# Altium integrated library 317030001.IntLib: 1 symbol
Pins are listed as number, name and electrical type; pins without a type are passive.

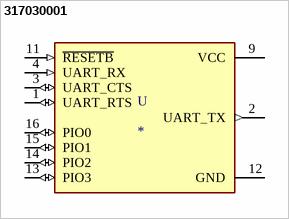
[diagram p0: symbol 317030001]

## 317030001
designator U
Bluetooth Bluetooth v4.0 Transceiver Module 2.4GHz Integrated, Trace Surface Mount; MF: Seeed Technology; MP: 317030001; Value: *; SnapEDA_Link: https://www.snapeda.com/parts/317030001/Seeed%20Technology%20Co.%2C%20Ltd/view-part/449174/?ref=snap; Digi-Key_Purchase_URL: https://www.digikey.kr/product-detail/en/seeed-technology-co-ltd/317030001/1597-1359-ND/5487659?utm_source=snapeda&utm_medium=aggregator&utm_campaign=symbol; Digi-Key_Part_Number: 1597-1359-ND; Package: Module Seeed Technology
footprint XCVR_317030001
pins: 1 UART_RTS (io), 2 UART_TX (out), 3 UART_CTS (io), 4 UART_RX (in), 9 VCC (power), 11 ~{RESETB} (in), 12 GND (power), 13 PIO3 (io), 14 PIO2 (io), 15 PIO1 (io), 16 PIO0 (io)